# Altium schematic symbol library Core Express.SchLib: 1 symbol
Pins are listed as number, name and electrical type; pins without a type are passive.

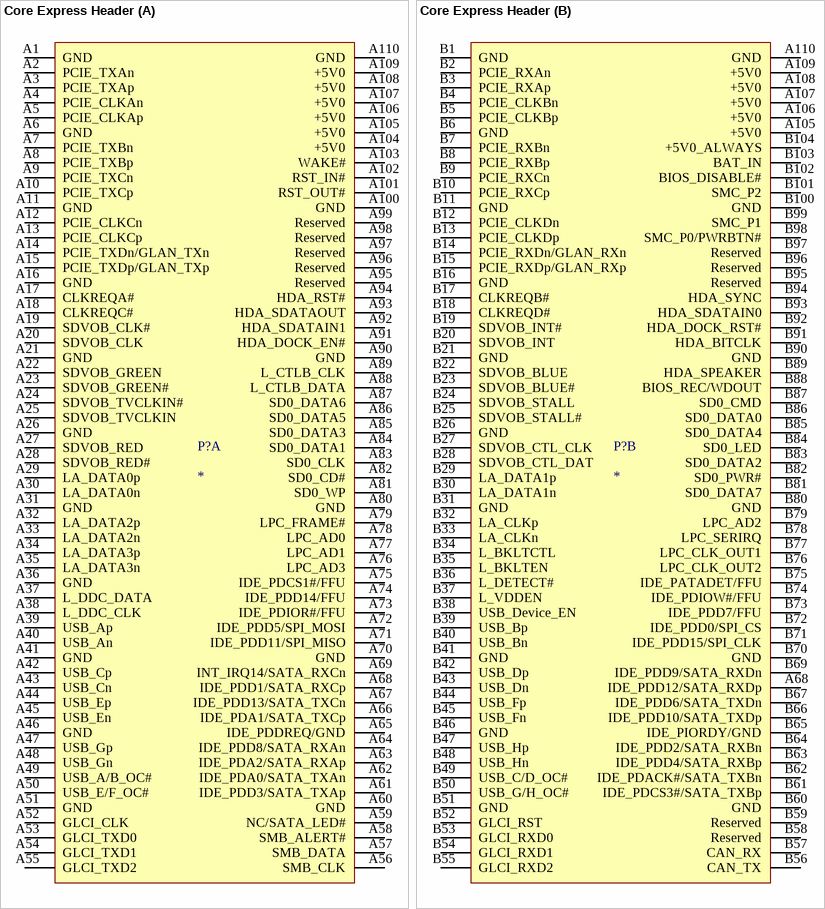
[diagram p0: symbol Core Express Header]

## Core Express Header
designator P?
Vendor: *; Part No.: *; Manufacturer: *; Price Est.: *
part A pins: A1 GND, A2 PCIE_TXAn, A3 PCIE_TXAp, A4 PCIE_CLKAn, A5 PCIE_CLKAp, A6 GND, A7 PCIE_TXBn, A8 PCIE_TXBp, A9 PCIE_TXCn, A10 PCIE_TXCp, A11 GND, A12 PCIE_CLKCn (power), A13 PCIE_CLKCp, A14 PCIE_TXDn/GLAN_TXn, A15 PCIE_TXDp/GLAN_TXp, A16 GND, A17 CLKREQA#, A18 CLKREQC#, A19 SDVOB_CLK#, A20 SDVOB_CLK, A21 GND, A22 SDVOB_GREEN, A23 SDVOB_GREEN#, A24 SDVOB_TVCLKIN#, A25 SDVOB_TVCLKIN, A26 GND, A27 SDVOB_RED, A28 SDVOB_RED#, A29 LA_DATA0p, A30 LA_DATA0n, A31 GND, A32 LA_DATA2p, A33 LA_DATA2n, A34 LA_DATA3p, A35 LA_DATA3n, A36 GND, A37 L_DDC_DATA, A38 L_DDC_CLK, A39 USB_Ap, A40 USB_An, A41 GND, A42 USB_Cp, A43 USB_Cn, A44 USB_Ep, A45 USB_En, A46 GND, A47 USB_Gp, A48 USB_Gn, A49 USB_A/B_OC#, A50 USB_E/F_OC#, A51 GND, A52 GLCI_CLK, A53 GLCI_TXD0, A54 GLCI_TXD1, A55 GLCI_TXD2, A56 SMB_CLK, A57 SMB_DATA, A58 SMB_ALERT#, A59 NC/SATA_LED#, A60 GND, A61 IDE_PDD3/SATA_TXAp, A62 IDE_PDA0/SATA_TXAn, A63 IDE_PDA2/SATA_RXAp, A64 IDE_PDD8/SATA_RXAn, A65 IDE_PDDREQ/GND, A66 IDE_PDA1/SATA_TXCp, A67 IDE_PDD13/SATA_TXCn, A68 IDE_PDD1/SATA_RXCp, A69 INT_IRQ14/SATA_RXCn, A70 GND, A71 IDE_PDD11/SPI_MISO, A72 IDE_PDD5/SPI_MOSI, A73 IDE_PDIOR#/FFU, A74 IDE_PDD14/FFU, A75 IDE_PDCS1#/FFU, A76 LPC_AD3, A77 LPC_AD1, A78 LPC_AD0, A79 LPC_FRAME#, A80 GND, A81 SD0_WP, A82 SD0_CD#, A83 SD0_CLK, A84 SD0_DATA1, A85 SD0_DATA3, A86 SD0_DATA5, A87 SD0_DATA6, A88 L_CTLB_DATA, A89 L_CTLB_CLK, A90 GND, A91 HDA_DOCK_EN#, A92 HDA_SDATAIN1, A93 HDA_SDATAOUT, A94 HDA_RST#, A95 Reserved, A96 Reserved, A97 Reserved, A98 Reserved, A99 Reserved, A100 GND, A101 RST_OUT#, A102 RST_IN#, A103 WAKE#, A104 +5V0, A105 +5V0, A106 +5V0, A107 +5V0, A108 +5V0, A109 +5V0, A110 GND
part B pins: A68 IDE_PDD12/SATA_RXDp, A105 +5V0, A106 +5V0, A107 +5V0, A108 +5V0, A109 +5V0, A110 GND, B1 GND, B2 PCIE_RXAn, B3 PCIE_RXAp, B4 PCIE_CLKBn, B5 PCIE_CLKBp, B6 GND, B7 PCIE_RXBn, B8 PCIE_RXBp, B9 PCIE_RXCn, B10 PCIE_RXCp, B11 GND, B12 PCIE_CLKDn (power), B13 PCIE_CLKDp, B14 PCIE_RXDn/GLAN_RXn, B15 PCIE_RXDp/GLAN_RXp, B16 GND, B17 CLKREQB#, B18 CLKREQD#, B19 SDVOB_INT#, B20 SDVOB_INT, B21 GND, B22 SDVOB_BLUE, B23 SDVOB_BLUE#, B24 SDVOB_STALL, B25 SDVOB_STALL#, B26 GND, B27 SDVOB_CTL_CLK, B28 SDVOB_CTL_DAT, B29 LA_DATA1p, B30 LA_DATA1n, B31 GND, B32 LA_CLKp, B33 LA_CLKn, B34 L_BKLTCTL, B35 L_BKLTEN, B36 L_DETECT#, B37 L_VDDEN, B38 USB_Device_EN, B39 USB_Bp, B40 USB_Bn, B41 GND, B42 USB_Dp, B43 USB_Dn, B44 USB_Fp, B45 USB_Fn, B46 GND, B47 USB_Hp, B48 USB_Hn, B49 USB_C/D_OC#, B50 USB_G/H_OC#, B51 GND, B52 GLCI_RST, B53 GLCI_RXD0, B54 GLCI_RXD1, B55 GLCI_RXD2, B56 CAN_TX, B57 CAN_RX, B58 Reserved, B59 Reserved, B60 GND, B61 IDE_PDCS3#/SATA_TXBp, B62 IDE_PDACK#/SATA_TXBn, B63 IDE_PDD4/SATA_RXBp, B64 IDE_PDD2/SATA_RXBn, B65 IDE_PIORDY/GND, B66 IDE_PDD10/SATA_TXDp, B67 IDE_PDD6/SATA_TXDn, B69 IDE_PDD9/SATA_RXDn, B70 GND, B71 IDE_PDD15/SPI_CLK, B72 IDE_PDD0/SPI_CS, B73 IDE_PDD7/FFU, B74 IDE_PDIOW#/FFU, B75 IDE_PATADET/FFU, B76 LPC_CLK_OUT2, B77 LPC_CLK_OUT1, B78 LPC_SERIRQ, B79 LPC_AD2, B80 GND, B81 SD0_DATA7, B82 SD0_PWR#, B83 SD0_DATA2, B84 SD0_LED, B85 SD0_DATA4, B86 SD0_DATA0, B87 SD0_CMD, B88 BIOS_REC/WDOUT, B89 HDA_SPEAKER, B90 GND, B91 HDA_BITCLK, B92 HDA_DOCK_RST#, B93 HDA_SDATAIN0, B94 HDA_SYNC, B95 Reserved, B96 Reserved, B97 Reserved, B98 SMC_P0/PWRBTN#, B99 SMC_P1, B100 GND, B101 SMC_P2, B102 BIOS_DISABLE#, B103 BAT_IN, B104 +5V0_ALWAYS